# Altium footprint library PCB Project Lib.PcbLib: 12 footprints
Each footprint in its own frame and in the unit in brackets; x right, y up, seen from the top. Pads: shape width x height; smd on the part's side, far side on the other; paste and mask are expansions set on the pad; w line width, h text height; cw(c..) or ccw(c..) is an arc to the next point about the centre after c.
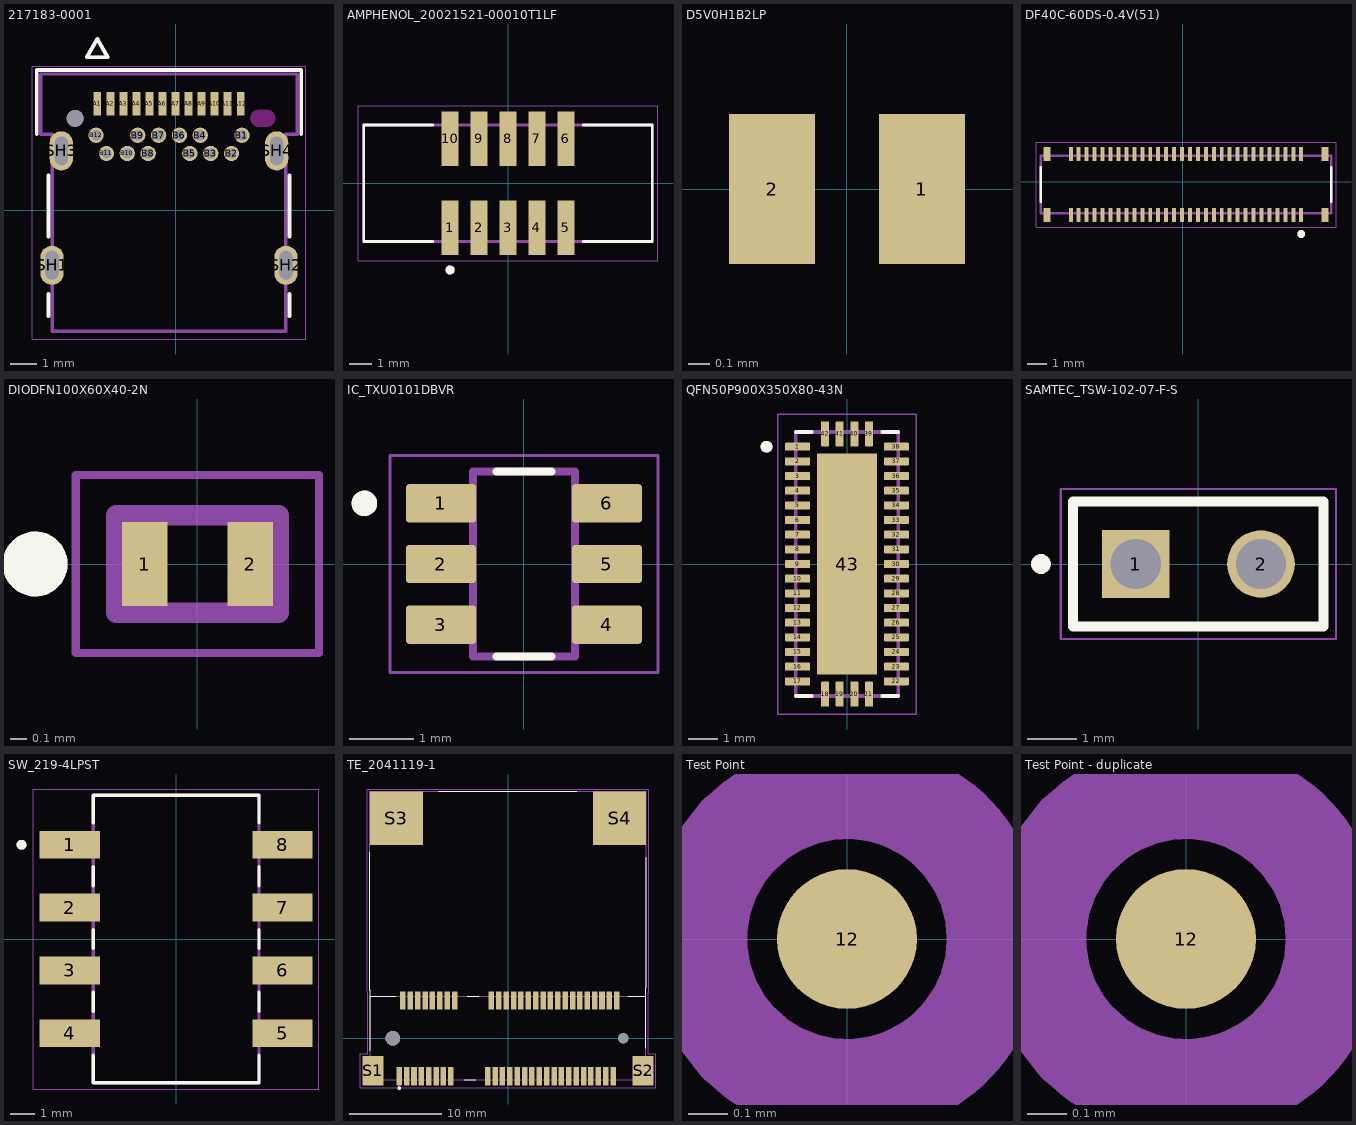
[diagram p0: the footprints below, top view; thin cyan lines are the x and y axes]

## 217183-0001 [mm]
pads (29):
  rect 0.298x0.9 smd mask+0.064: A1(-3.004,4.086) A2(-2.504,4.086) A3(-2.004,4.086) A4(-1.504,4.086) A5(-1.004,4.086) A6(-0.504,4.086) A7(-0.004,4.086) A8(0.496,4.086) A9(0.996,4.086) A10(1.496,4.086) A11(1.996,4.086) A12(2.496,4.086)
  round 0.59 hole 0.4 mask+0.064: B1(2.546,2.876) B2(2.146,2.176) B3(1.346,2.176) B4(0.946,2.876) B5(0.546,2.176) B6(0.146,2.876) B7(-0.654,2.876) B8(-1.054,2.176) B9(-1.454,2.876) B10(-1.854,2.176) B11(-2.654,2.176) B12(-3.054,2.876)
  oval 0.9x1.5 hole 0.5 slot 1.1 at 90 deg mask+0.064: SH1(-4.744,-2.114) SH2(4.236,-2.114) SH3(-4.384,2.276) SH4(3.876,2.276)
  round 0.65 hole 0.65 unplated mask+0.064: ""(-3.854,3.526)
Top Overlay:
  lines w0.15: -5.329,2.916 -5.329,5.376 4.821,5.376 4.821,2.916 ; -4.879,-4.064 -4.879,-3.214 ; -4.879,-1.014 -4.879,1.336 ; 4.371,-4.064 4.371,-3.214 ; 4.371,-1.014 4.371,1.336 ; -3.404,5.869 -2.604,5.869 -3.004,6.569 -3.404,5.869
Top Solder:
  region: 3.516,3.914 3.537,3.912 3.557,3.91 3.577,3.906 3.597,3.901 3.616,3.895 3.635,3.889 3.654,3.881 3.672,3.872 3.69,3.862 3.708,3.852 3.724,3.84 3.74,3.828 3.756,3.815 3.771,3.801 3.785,3.786 3.798,3.77 3.81,3.754 3.822,3.738 3.832,3.72 3.842,3.702 3.851,3.684 3.859,3.665 3.865,3.646 3.871,3.627 3.876,3.607 3.88,3.587 3.882,3.567 3.884,3.546 3.884,3.526 3.884,3.506 3.882,3.485 3.88,3.465 3.876,3.445 3.871,3.425 3.865,3.406 3.859,3.387 3.851,3.368 3.842,3.35 3.832,3.332 3.822,3.314 3.81,3.298 3.798,3.282 3.785,3.266 3.771,3.251 3.756,3.237 3.74,3.224 3.724,3.212 3.708,3.2 3.69,3.19 3.672,3.18 3.654,3.171 3.635,3.163 3.616,3.157 3.597,3.151 3.577,3.146 3.557,3.142 3.537,3.14 3.516,3.138 3.176,3.138 3.155,3.14 3.135,3.142 3.115,3.146 3.095,3.151 3.076,3.157 3.057,3.163 3.038,3.171 3.02,3.18 3.002,3.19 2.984,3.2 2.968,3.212 2.952,3.224 2.936,3.237 2.921,3.251 2.907,3.266 2.894,3.282 2.882,3.298 2.87,3.314 2.86,3.332 2.85,3.35 2.841,3.368 2.833,3.387 2.827,3.406 2.821,3.425 2.816,3.445 2.812,3.465 2.81,3.485 2.808,3.506 2.808,3.526 2.808,3.546 2.81,3.567 2.812,3.587 2.816,3.607 2.821,3.627 2.827,3.646 2.833,3.665 2.841,3.684 2.85,3.702 2.86,3.72 2.87,3.738 2.882,3.754 2.894,3.77 2.907,3.786 2.921,3.801 2.936,3.815 2.952,3.828 2.968,3.84 2.984,3.852 3.002,3.862 3.02,3.872 3.038,3.881 3.057,3.889 3.076,3.895 3.095,3.901 3.115,3.906 3.135,3.91 3.155,3.912 3.176,3.914 3.196,3.915 3.496,3.915
Bottom Solder:
  region: 3.516,3.914 3.537,3.912 3.557,3.91 3.577,3.906 3.597,3.901 3.616,3.895 3.635,3.889 3.654,3.881 3.672,3.872 3.69,3.862 3.708,3.852 3.724,3.84 3.74,3.828 3.756,3.815 3.771,3.801 3.785,3.786 3.798,3.77 3.81,3.754 3.822,3.738 3.832,3.72 3.842,3.702 3.851,3.684 3.859,3.665 3.865,3.646 3.871,3.627 3.876,3.607 3.88,3.587 3.882,3.567 3.884,3.546 3.884,3.526 3.884,3.506 3.882,3.485 3.88,3.465 3.876,3.445 3.871,3.425 3.865,3.406 3.859,3.387 3.851,3.368 3.842,3.35 3.832,3.332 3.822,3.314 3.81,3.298 3.798,3.282 3.785,3.266 3.771,3.251 3.756,3.237 3.74,3.224 3.724,3.212 3.708,3.2 3.69,3.19 3.672,3.18 3.654,3.171 3.635,3.163 3.616,3.157 3.597,3.151 3.577,3.146 3.557,3.142 3.537,3.14 3.516,3.138 3.176,3.138 3.155,3.14 3.135,3.142 3.115,3.146 3.095,3.151 3.076,3.157 3.057,3.163 3.038,3.171 3.02,3.18 3.002,3.19 2.984,3.2 2.968,3.212 2.952,3.224 2.936,3.237 2.921,3.251 2.907,3.266 2.894,3.282 2.882,3.298 2.87,3.314 2.86,3.332 2.85,3.35 2.841,3.368 2.833,3.387 2.827,3.406 2.821,3.425 2.816,3.445 2.812,3.465 2.81,3.485 2.808,3.506 2.808,3.526 2.808,3.546 2.81,3.567 2.812,3.587 2.816,3.607 2.821,3.627 2.827,3.646 2.833,3.665 2.841,3.684 2.85,3.702 2.86,3.72 2.87,3.738 2.882,3.754 2.894,3.77 2.907,3.786 2.921,3.801 2.936,3.815 2.952,3.828 2.968,3.84 2.984,3.852 3.002,3.862 3.02,3.872 3.038,3.881 3.057,3.889 3.076,3.895 3.095,3.901 3.115,3.906 3.135,3.91 3.155,3.912 3.176,3.914 3.196,3.915 3.496,3.915
Keep-Out Layer:
  board cut-out: 3.496,3.201 3.196,3.201 3.179,3.201 3.162,3.203 3.145,3.205 3.128,3.208 3.112,3.212 3.096,3.217 3.08,3.223 3.064,3.229 3.048,3.236 3.034,3.245 3.019,3.253 3.005,3.263 2.991,3.273 2.979,3.284 2.966,3.296 2.954,3.309 2.943,3.321 2.933,3.335 2.923,3.349 2.915,3.364 2.906,3.378 2.899,3.394 2.893,3.41 2.887,3.426 2.882,3.442 2.878,3.458 2.875,3.475 2.873,3.492 2.871,3.509 2.871,3.526 2.871,3.543 2.873,3.56 2.875,3.577 2.878,3.594 2.882,3.61 2.887,3.626 2.893,3.642 2.899,3.658 2.906,3.674 2.915,3.688 2.923,3.703 2.933,3.717 2.943,3.731 2.954,3.743 2.966,3.756 2.979,3.768 2.991,3.779 3.005,3.789 3.019,3.799 3.034,3.807 3.048,3.816 3.064,3.823 3.08,3.829 3.096,3.835 3.112,3.84 3.128,3.844 3.145,3.847 3.162,3.849 3.179,3.851 3.196,3.851 3.496,3.851 3.513,3.851 3.53,3.849 3.547,3.847 3.564,3.844 3.58,3.84 3.596,3.835 3.612,3.829 3.628,3.823 3.644,3.816 3.659,3.807 3.673,3.799 3.687,3.789 3.701,3.779 3.713,3.768 3.726,3.756 3.738,3.743 3.749,3.731 3.759,3.717 3.769,3.703 3.777,3.688 3.786,3.674 3.793,3.658 3.799,3.642 3.805,3.626 3.81,3.61 3.814,3.594 3.817,3.577 3.819,3.56 3.821,3.543 3.821,3.526 3.821,3.509 3.819,3.492 3.817,3.475 3.814,3.458 3.81,3.442 3.805,3.426 3.799,3.41 3.793,3.394 3.786,3.378 3.777,3.364 3.769,3.349 3.759,3.335 3.749,3.321 3.738,3.309 3.726,3.296 3.713,3.284 3.701,3.273 3.687,3.263 3.673,3.253 3.659,3.245 3.644,3.236 3.628,3.229 3.612,3.223 3.596,3.217 3.58,3.212 3.564,3.208 3.547,3.205 3.53,3.203 3.513,3.201
Mechanical 13:
  lines w0.13: -5.179,2.916 -5.179,5.226 4.671,5.226 4.671,2.916 4.221,2.916 4.221,-4.644 -4.729,-4.644 -4.729,-4.064 -4.729,2.916 -5.179,2.916 ; -3.404,5.869 -2.604,5.869 -3.004,6.569 -3.404,5.869
Mechanical 15:
  lines w0.01: -5.494,-4.944 -5.494,5.526 4.986,5.526 4.986,-4.944 -5.494,-4.944
3D body "2171830001.stp": height 3.37, standoff -1.09, extent -5.179,-4.554 4.671,5.316

## AMPHENOL_20021521-00010T1LF [mm]
height 6.7
pads (10):
  rect 0.76x2.4 smd: 1(-2.54,-1.95) 2(-1.27,-1.95) 3(0,-1.95) 4(1.27,-1.95) 5(2.54,-1.95) 6(2.54,1.95) 7(1.27,1.95) 8(0,1.95) 9(-1.27,1.95) 10(-2.54,1.95)
Top Overlay:
  circle w0.2: c-2.54,-3.8 r0.1
  lines w0.127: -3.3,-2.55 -6.325,-2.55 -6.325,2.55 -3.3,2.55 ; 3.3,-2.55 6.325,-2.55 6.325,2.55 3.3,2.55
Mechanical 13:
  circle w0.2: c-2.54,-3.8 r0.1
  lines w0.127: -6.325,-2.55 -6.325,2.55 6.325,2.55 6.325,-2.55 -6.325,-2.55
Mechanical 15:
  lines w0.05: -6.575,-3.4 -6.575,3.4 6.575,3.4 6.575,-3.4 -6.575,-3.4
3D body "20021521-00010T1LF--3DModel-STEP-510211.STEP": height 5.6, standoff 0, extent -6.3,-2.75 6.35,2.75

## D5V0H1B2LP [mm]
pads (2):
  rect 0.4x0.7 smd: 1(0.35,0) 2(-0.35,0)

## DF40C-60DS-0.4V(51) [mm]
pads (64):
  rect 0.2x0.7 smd paste-1 mask+0.05: 1(5.968,-1.683) 2(5.968,1.397) 3(5.568,-1.683) 4(5.568,1.397) 5(5.168,-1.683) 6(5.168,1.397) 7(4.768,-1.683) 8(4.768,1.397) 9(4.368,-1.683) 10(4.368,1.397) 11(3.968,-1.683) 12(3.968,1.397) 13(3.568,-1.683) 14(3.568,1.397) 15(3.168,-1.683) 16(3.168,1.397) 17(2.768,-1.683) 18(2.768,1.397) 19(2.368,-1.683) 20(2.368,1.397) 21(1.968,-1.683) 22(1.968,1.397) 23(1.568,-1.683) 24(1.568,1.397) 25(1.168,-1.683) 26(1.168,1.397) 27(0.768,-1.683) 28(0.768,1.397) 29(0.368,-1.683) 30(0.368,1.397) 31(-0.032,-1.683) 32(-0.032,1.397) 33(-0.432,-1.683) 34(-0.432,1.397) 35(-0.832,-1.683) 36(-0.832,1.397) 37(-1.232,-1.683) 38(-1.232,1.397) 39(-1.632,-1.683) 40(-1.632,1.397) 41(-2.032,-1.683) 42(-2.032,1.397) 43(-2.432,-1.683) 44(-2.432,1.397) 45(-2.832,-1.683) 46(-2.832,1.397) 47(-3.232,-1.683) 48(-3.232,1.397) 49(-3.632,-1.683) 50(-3.632,1.397) 51(-4.032,-1.683) 52(-4.032,1.397) 53(-4.432,-1.683) 54(-4.432,1.397) 55(-4.832,-1.683) 56(-4.832,1.397) 57(-5.232,-1.683) 58(-5.232,1.397) 59(-5.632,-1.683) 60(-5.632,1.397)
  rect 0.35x0.7 smd paste-1: S1(7.168,-1.683) S2(7.168,1.397) S3(-6.832,-1.683) S4(-6.832,1.397)
Top Overlay:
  circle w0.2: c5.968,-2.633 r0.1
  lines w0.127: -7.132,-1.013 -7.132,0.727 ; 7.468,-1.013 7.468,0.727
Top Paste:
  drawing of 64 lines, arcs and shapes, not listed
Mechanical 13:
  circle w0.2: c5.968,-2.633 r0.1
  lines w0.127: -7.132,-1.583 7.468,-1.583 7.468,1.297 -7.132,1.297 -7.132,-1.583
Mechanical 15:
  lines w0.05: -7.382,-2.283 -7.382,1.997 7.718,1.997 7.718,-2.283 -7.382,-2.283
3D body "df40c-60ds-0_4v_51_.stp": height 1.5, standoff 0.05, extent -7.132,-1.792 7.468,1.588

## DIODFN100X60X40-2N [mm]
pads (2):
  rect 0.28x0.52 smd: 1(-0.325,0) 2(0.325,0)
Top Overlay:
  circle w0.2: c-1,0 r0.1
Mechanical 13:
  circle w0.2: c-1,0 r0.1
  lines w0.127: -0.5,-0.3 0.5,-0.3 0.5,0.3 -0.5,0.3 -0.5,-0.3
Mechanical 15:
  lines w0.05: -0.75,-0.55 0.75,-0.55 0.75,0.55 -0.75,0.55 -0.75,-0.55
3D body "step_temp.STEP": height 0.4, standoff 0, extent -0.5,-0.3 0.5,0.3

## IC_TXU0101DBVR [mm]
height 1.45
pads (6):
  rrect17% 1.1x0.6 smd mask+0: 1(-1.3,0.95) 2(-1.3,0) 3(-1.3,-0.95) 4(1.3,-0.95) 5(1.3,0) 6(1.3,0.95)
Top Overlay:
  circle w0.2: c-2.5,0.95 r0.1
  lines w0.127: -0.43,-1.45 0.43,-1.45 ; -0.43,1.45 0.43,1.45
Top Solder:
  drawing of 6 lines, arcs and shapes, not listed
Mechanical 13:
  circle w0.2: c-2.5,0.95 r0.1
  lines w0.127: -0.8,-1.45 0.8,-1.45 0.8,1.45 -0.8,1.45 -0.8,-1.45
Mechanical 15:
  lines w0.05: -2.1,-1.7 2.1,-1.7 2.1,1.7 -2.1,1.7 -2.1,-1.7
3D body "step_temp.STEP": height 1.45, standoff 0, extent -1.4,-1.45 1.4,1.45

## QFN50P900X350X80-43N [mm]
pads (43):
  rrect25% 0.86x0.27 smd: 1(-1.685,4) 2(-1.685,3.5) 3(-1.685,3) 4(-1.685,2.5) 5(-1.685,2) 6(-1.685,1.5) 7(-1.685,1) 8(-1.685,0.5) 9(-1.685,0) 10(-1.685,-0.5) 11(-1.685,-1) 12(-1.685,-1.5) 13(-1.685,-2) 14(-1.685,-2.5) 15(-1.685,-3) 16(-1.685,-3.5) 17(-1.685,-4) 22(1.685,-4) 23(1.685,-3.5) 24(1.685,-3) 25(1.685,-2.5) 26(1.685,-2) 27(1.685,-1.5) 28(1.685,-1) 29(1.685,-0.5) 30(1.685,0) 31(1.685,0.5) 32(1.685,1) 33(1.685,1.5) 34(1.685,2) 35(1.685,2.5) 36(1.685,3) 37(1.685,3.5) 38(1.685,4)
  rrect25% 0.27x0.86 smd: 18(-0.75,-4.435) 19(-0.25,-4.435) 20(0.25,-4.435) 21(0.75,-4.435) 39(0.75,4.435) 40(0.25,4.435) 41(-0.25,4.435) 42(-0.75,4.435)
  rect 2.05x7.55 smd paste-5: 43(0,0)
Top Overlay:
  circle w0.2: c-2.745,4 r0.1
  lines w0.127: -1.75,-4.5 -1.205,-4.5 ; -1.75,4.5 -1.205,4.5 ; 1.205,-4.5 1.75,-4.5 ; 1.205,4.5 1.75,4.5
Top Paste:
  region: -0.1,0.1 -1.02,0.1 -1.02,1.07 -0.1,1.07
  region: 1.02,0.1 0.1,0.1 0.1,1.07 1.02,1.07
  region: 1.02,1.27 0.1,1.27 0.1,2.24 1.02,2.24
  region: 1.02,2.44 0.1,2.44 0.1,3.41 1.02,3.41
  region: -0.1,1.27 -1.02,1.27 -1.02,2.24 -0.1,2.24
  region: -0.1,2.44 -1.02,2.44 -1.02,3.41 -0.1,3.41
  region: 1.02,-1.07 0.1,-1.07 0.1,-0.1 1.02,-0.1
  region: -0.1,-1.07 -1.02,-1.07 -1.02,-0.1 -0.1,-0.1
  region: -0.1,-2.24 -1.02,-2.24 -1.02,-1.27 -0.1,-1.27
  region: 1.02,-2.24 0.1,-2.24 0.1,-1.27 1.02,-1.27
  region: -0.1,-3.41 -1.02,-3.41 -1.02,-2.44 -0.1,-2.44
  region: 1.02,-3.41 0.1,-3.41 0.1,-2.44 1.02,-2.44
Mechanical 13:
  circle w0.2: c-2.745,4 r0.1
  lines w0.127: -1.75,-4.5 1.75,-4.5 1.75,4.5 -1.75,4.5 -1.75,-4.5
Mechanical 15:
  lines w0.05: -2.365,-5.115 2.365,-5.115 2.365,5.115 -2.365,5.115 -2.365,-5.115
3D body "TS3DV642A0RUAR--3DModel-STEP-56544.STEP": height 0.8, standoff 0, extent -1.75,-4.5 1.75,4.5

## SAMTEC_TSW-102-07-F-S [mm]
pads (2):
  rect 1.37x1.37 / inner round 1.37 / far side rect 1.37x1.37 hole 1.02: 1(-1.27,0)
  round 1.37 hole 1.02: 2(1.27,0)
Top Overlay:
  circle w0.2: c-3.19,0 r0.1
  lines w0.2: -2.54,-1.27 2.54,-1.27 2.54,1.27 -2.54,1.27 -2.54,-1.27
Mechanical 13:
  circle w0.2: c-3.19,0 r0.1
  lines w0.1: -2.54,-1.27 -2.54,1.27 ; -2.54,-1.27 2.54,-1.27 ; -2.54,-1.27 -2.54,1.27 ; -2.54,1.27 2.54,1.27 ; -2.54,1.27 2.54,1.27 ; 2.54,-1.27 2.54,1.27 ; 2.54,-1.27 2.54,1.27
Mechanical 15:
  lines w0.05: -2.79,-1.52 2.79,-1.52 2.79,1.52 -2.79,1.52 -2.79,-1.52
3D body "TSW-102-07-F-S.stp": height 8.38, standoff -2.54, extent -2.667,-1.143 2.54,1.397

## SW_219-4LPST [mm]
height 4.58
pads (8):
  rect 2.44x1.13 smd: 1(-4.3,3.81) 2(-4.3,1.27) 3(-4.3,-1.27) 4(-4.3,-3.81) 5(4.3,-3.81) 6(4.3,-1.27) 7(4.3,1.27) 8(4.3,3.81)
Top Overlay:
  circle w0.2: c-6.25,3.81 r0.1
  lines w0.127: -3.35,-4.69 -3.35,-5.815 3.35,-5.815 3.35,-4.69 ; -3.35,-2.93 -3.35,-2.15 ; -3.35,-0.39 -3.35,0.39 ; -3.35,2.15 -3.35,2.93 ; -3.35,4.69 -3.35,5.815 3.35,5.815 3.35,4.69 ; 3.35,-2.93 3.35,-2.15 ; 3.35,-0.39 3.35,0.39 ; 3.35,2.15 3.35,2.93
Mechanical 13:
  circle w0.2: c-6.25,3.81 r0.1
  lines w0.127: -3.35,-5.815 -3.35,5.815 3.35,5.815 3.35,-5.815 -3.35,-5.815
Mechanical 15:
  lines w0.05: -5.77,-6.065 -5.77,6.065 5.77,6.065 5.77,-6.065 -5.77,-6.065

## TE_2041119-1 [mm]
pads (58):
  rect 0.6x2 smd: 1(-11.8,-4.1) 2(-11.4,4.1) 3(-11,-4.1) 4(-10.6,4.1) 5(-10.2,-4.1) 6(-9.8,4.1) 7(-9.4,-4.1) 8(-9,4.1) 9(-8.6,-4.1) 10(-8.2,4.1) 11(-7.8,-4.1) 12(-7.4,4.1) 13(-7,-4.1) 14(-6.6,4.1) 15(-6.2,-4.1) 16(-5.8,4.1) 17(-2.2,-4.1) 18(-1.8,4.1) 19(-1.4,-4.1) 20(-1,4.1) 21(-0.6,-4.1) 22(-0.2,4.1) 23(0.2,-4.1) 24(0.6,4.1) 25(1,-4.1) 26(1.4,4.1) 27(1.8,-4.1) 28(2.2,4.1) 29(2.6,-4.1) 30(3,4.1) 31(3.4,-4.1) 32(3.8,4.1) 33(4.2,-4.1) 34(4.6,4.1) 35(5,-4.1) 36(5.4,4.1) 37(5.8,-4.1) 38(6.2,4.1) 39(6.6,-4.1) 40(7,4.1) 41(7.4,-4.1) 42(7.8,4.1) 43(8.2,-4.1) 44(8.6,4.1) 45(9,-4.1) 46(9.4,4.1) 47(9.8,-4.1) 48(10.2,4.1) 49(10.6,-4.1) 50(11,4.1) 51(11.4,-4.1) 52(11.8,4.1)
  rect 2.3x3.2 smd: S1(-14.65,-3.5) S2(14.65,-3.5)
  rect 5.8x5.8 smd: S3(-12.1,23.9) S4(12.1,23.9)
  round 1.6 hole 1.6 unplated: ""(-12.5,0)
  round 1.1 hole 1.1 unplated: ""(12.5,0)
Top Overlay:
  circle w0.2: c-11.8,-5.4 r0.1
  lines w0.127: -15,20.2 -15,5.2 -14.95,5.15 -14.95,4.58 ; -14.95,-1.35 -14.95,4.58 ; -12.2,4.58 -14.95,4.58 ; -7.5,26.8 7.45,26.8 ; -4.75,-4.51 -3.5,-4.51 ; -4.4,4.58 -3.15,4.58 ; 13,4.58 14.95,4.58 ; 14.95,-1.1 14.95,4.58 ; 15,19.65 15,5.55 14.95,5.5 14.95,4.58
Mechanical 13:
  lines w0.127: -15,5.6 -15,26.8 15,26.8 15,5.6 ; -14.95,-4.51 14.95,-4.51 14.95,4.58 -14.95,4.58 -14.95,-4.51
Mechanical 15:
  lines w0.05: -16.05,-5.35 -16.05,-1.65 -15.2,-1.65 -15.2,5 -15.25,5 -15.25,27.05 15.25,27.05 15.25,5 15.2,5 15.2,-1.65 16.05,-1.65 16.05,-5.35 -16.05,-5.35
3D body "2041119-1.stp": height 4.15, standoff -0.5, extent -14.95,-4.699 14.95,4.391

## Test Point [mil]
pads (1):
  round 14 smd: 12(0,0)
Mechanical 15:
  circle w10: c0,0 r15

## Test Point - duplicate [mil]
pads (1):
  round 14 smd: 12(0,0)
Mechanical 15:
  circle w10: c0,0 r15